# EAGLE library part LD39050 (library Spannungsregler - LD39050)
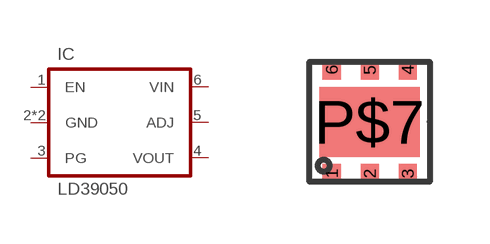
[diagram p0: symbol with the pads of DFN6; footprint DFN6]

Designator prefix IC

## LD39050PUR  [DFN6]
1  EN
2  GND
3  PG
4  VOUT
5  ADJ
6  VIN
P$7  GND

## Footprint DFN6 (pad centres in mm)
smd 0.45 x 0.5: 1 0,0; 2 0.95,0; 3 1.9,0; 4 1.9,2.6; 5 0.95,2.6; 6 0,2.6
smd 2.5 x 1.75: P$7 0.95,1.3